# EAGLE library part SENSORTILE (library sensortile)
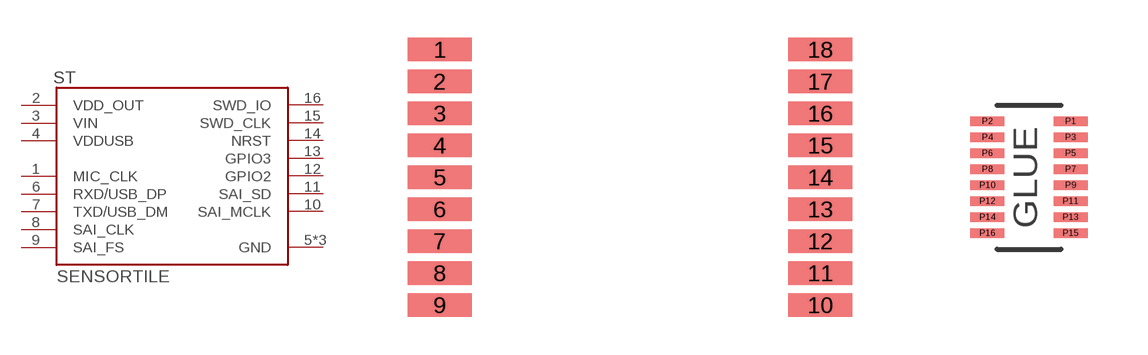
[diagram p0: symbol with the pads of SENSORTILE; footprints SENSORTILE, BM10JC16]

Designator prefix ST

## SENSORTILE  [SENSORTILE]
1  MIC_CLK
2  VDD_OUT
3  VIN
4  VDDUSB
5  GND
6  RXD/USB_DP
7  TXD/USB_DM
8  SAI_CLK
9  SAI_FS
10  SAI_MCLK
11  SAI_SD
12  GPIO2
13  GPIO3
14  NRST
15  SWD_CLK
16  SWD_IO
17  GND
18  GND

## SENSORTILEPLUG  [BM10JC16]
P1  SWD_IO
P2  MIC_CLK
P3  SWD_CLK
P4  VDD_OUT
P5  NRST
P6  VIN
P7  GPIO3
P8  VDDUSB
P9  GPIO2
P10  GND
P11  SAI_SD
P12  RXD/USB_DP
P13  SAI_MCLK
P14  TXD/USB_DM
P15  SAI_FS
P16  SAI_CLK

## Footprint SENSORTILE (pad centres in mm)
smd 2.54 x 0.94: 1 -2.54,6.35; 2 -2.54,5.08; 3 -2.54,3.81; 4 -2.54,2.54; 5 -2.54,1.27; 6 -2.54,0; 7 -2.54,-1.27; 8 -2.54,-2.54; 9 -2.54,-3.81; 10 12.573,-3.81; 11 12.573,-2.54; 12 12.573,-1.27; 13 12.573,0; 14 12.573,1.27; 15 12.573,2.54; 16 12.573,3.81; 17 12.573,5.08; 18 12.573,6.35

## Footprint BM10JC16 (pad centres in mm)
smd 0.85 x 0.23: P1 1.04,1.53; P2 -1.04,1.53; P3 1.04,1.13; P4 -1.04,1.13; P5 1.04,0.73; P6 -1.04,0.73; P7 1.04,0.33; P8 -1.04,0.33; P9 1.04,-0.07; P10 -1.04,-0.07; P11 1.04,-0.47; P12 -1.04,-0.47; P13 1.04,-0.87; P14 -1.04,-0.87; P15 1.04,-1.27; P16 -1.04,-1.27